# Altium footprint library temperature_logger_lib.PcbLib: 10 footprints
Each footprint in its own frame and in the unit in brackets; x right, y up, seen from the top. Pads: shape width x height; smd on the part's side, far side on the other; paste and mask are expansions set on the pad; w line width, h text height; cw(c..) or ccw(c..) is an arc to the next point about the centre after c.
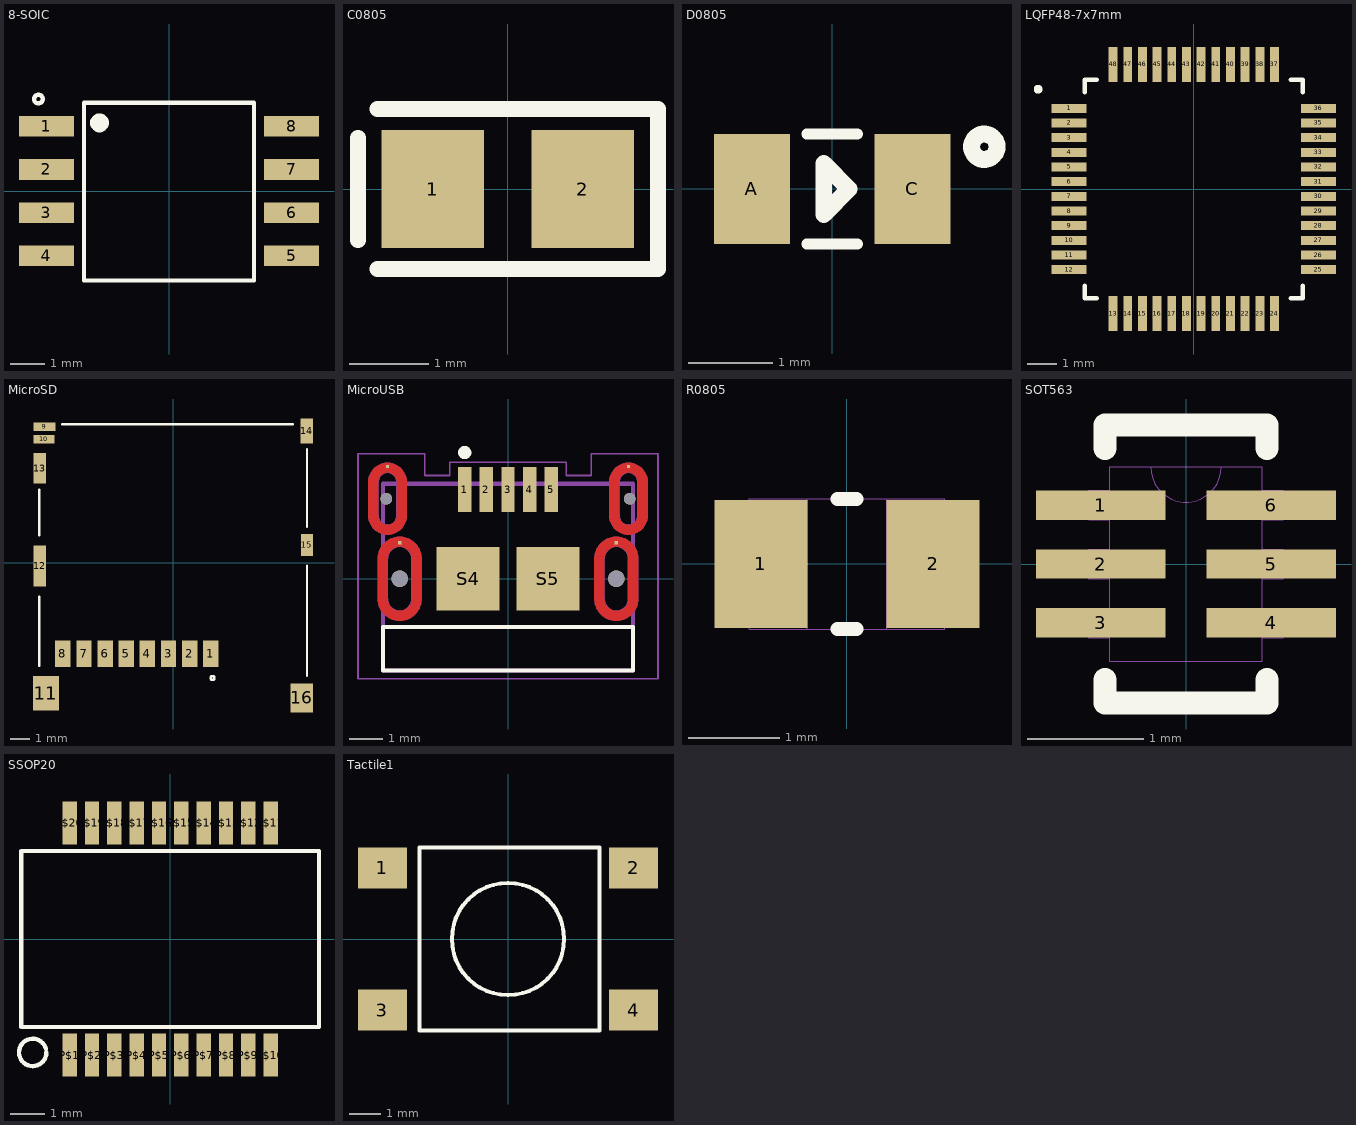
[diagram p0: the footprints below, top view; thin cyan lines are the x and y axes]

## 8-SOIC [mm]
pads (8):
  rect 1.61x0.61 smd: 1(-3.605,1.905) 2(-3.605,0.635) 3(-3.605,-0.635) 4(-3.605,-1.905) 5(3.605,-1.905) 6(3.605,-0.635) 7(3.605,0.635) 8(3.605,1.905)
Top Overlay:
  circle w0.127: c-3.84,2.705 r0.127
  circle w0.3: c-2.043,2.005 r0.127
  lines w0.127: -2.5,-2.63 2.5,-2.63 2.5,2.6 -2.5,2.6 -2.5,-2.63

## C0805 [mm] "Chip Capacitor; Body 2.0 x 1.2 mm (LxW typ)"
height 1.4
pads (2):
  rect 1.3x1.5 smd: 1(-0.95,0) 2(0.95,0)
Top Overlay:
  lines w0.2: -1.9,-0.65 -1.9,0.65 ; -1.651,-1.016 1.905,-1.016 1.905,1.016 -1.651,1.016

## D0805 [mm]
pads (2):
  rect 0.9x1.3 smd: A(-0.95,0) C(0.95,0)
Top Overlay:
  circle w0.2: c1.8,0.5 r0.15
  lines w0.127: -0.3,-0.65 0.3,-0.65 ; -0.3,0.65 0.3,0.65
  lines w0.2: -0.1,-0.3 0.2,0 -0.1,0.3 -0.1,-0.3

## LQFP48-7x7mm [mm]
pads (48):
  rect 1.194x0.305 smd: 1(-4.25,2.75) 2(-4.25,2.25) 3(-4.25,1.75) 4(-4.25,1.25) 5(-4.25,0.75) 6(-4.25,0.25) 7(-4.25,-0.25) 8(-4.25,-0.75) 9(-4.25,-1.25) 10(-4.25,-1.75) 11(-4.25,-2.25) 12(-4.25,-2.75) 25(4.25,-2.75) 26(4.25,-2.25) 27(4.25,-1.75) 28(4.25,-1.25) 29(4.25,-0.75) 30(4.25,-0.25) 31(4.25,0.25) 32(4.25,0.75) 33(4.25,1.25) 34(4.25,1.75) 35(4.25,2.25) 36(4.25,2.75)
  rect 0.305x1.194 smd: 13(-2.75,-4.25) 14(-2.25,-4.25) 15(-1.75,-4.25) 16(-1.25,-4.25) 17(-0.75,-4.25) 18(-0.25,-4.25) 19(0.25,-4.25) 20(0.75,-4.25) 21(1.25,-4.25) 22(1.75,-4.25) 23(2.25,-4.25) 24(2.75,-4.25) 37(2.75,4.25) 38(2.25,4.25) 39(1.75,4.25) 40(1.25,4.25) 41(0.75,4.25) 42(0.25,4.25) 43(-0.25,4.25) 44(-0.75,4.25) 45(-1.25,4.25) 46(-1.75,4.25) 47(-2.25,4.25) 48(-2.75,4.25)
Top Overlay:
  circle w0.152: c-5.3,3.4 r0.076
  lines w0.152: -3.721,-3.3 -3.721,-3.721 -3.3,-3.721 ; -3.721,3.3 -3.721,3.721 -3.3,3.721 ; 3.3,-3.721 3.721,-3.721 3.721,-3.3 ; 3.3,3.721 3.721,3.721 3.721,3.3

## MicroSD [mm]
pads (16):
  rect 0.8x1.4 smd: 1(1.965,-4.75) 2(0.865,-4.75) 3(-0.235,-4.75) 4(-1.335,-4.75) 5(-2.435,-4.75) 6(-3.535,-4.75) 7(-4.635,-4.75) 8(-5.735,-4.75)
  rect 1.15x0.45 smd: 9(-6.7,7.075)
  rect 1.1x0.45 smd: 10(-6.725,6.415)
  rect 1.35x1.8 smd: 11(-6.625,-6.8)
  rect 0.65x2.14 smd: 12(-6.95,-0.17)
  rect 0.65x1.6 smd: 13(-6.95,4.91)
  rect 0.65x1.3 smd: 14(6.95,6.85)
  rect 0.6x1.15 smd: 15(6.975,0.925)
  rect 1.16x1.5 smd: 16(6.695,-7.05)
Top Overlay:
  circle w0.127: c2.06,-6.01 r0.1
  lines w0.127: -6.975,-5.38 -6.975,-1.77 ; -6.975,1.41 -6.975,3.8 ; -5.77,7.2 6.24,7.2 ; 6.975,-5.9 6.975,-0.17 ; 6.975,1.85 6.975,5.91

## MicroUSB [mm]
pads (15):
  rect 0.4x1.35 smd: 1(-1.3,2.675) 2(-0.65,2.675) 3(0,2.675) 4(0.65,2.675) 5(1.3,2.675)
  round 0.35 hole 0.35 unplated: None(-3.65,2.4) None(3.65,2.4)
  round 0.5 hole 0.5 unplated: None(-3.25,0) None(3.25,0)
  rect 0.1x0.1 smd: S1(-3.25,1.08) S2(3.25,1.08) S3(-3.615,3.369) S6(3.615,3.369)
  rect 1.9x1.9 smd: S4(-1.2,0) S5(1.2,0)
Top Layer:
  region: 257 vertices and 0 holes, not listed, extent -3.91,-1.26 -2.59,1.26
  region: 257 vertices and 0 holes, not listed, extent 2.59,-1.26 3.91,1.26
  region: 257 vertices and 0 holes, not listed, extent -4.195,1.32 -3.035,3.48
  region: 257 vertices and 0 holes, not listed, extent 3.035,1.32 4.195,3.48
Bottom Layer:
  region: 257 vertices and 0 holes, not listed, extent -3.91,-1.26 -2.59,1.26
  region: 257 vertices and 0 holes, not listed, extent 2.59,-1.26 3.91,1.26
  region: 257 vertices and 0 holes, not listed, extent -4.195,1.32 -3.035,3.48
  region: 257 vertices and 0 holes, not listed, extent 3.035,1.32 4.195,3.48
Top Overlay:
  circle w0.2: c-1.3,3.787 r0.1
  lines w0.127: -3.75,-2.75 -3.75,-1.45 3.75,-1.45 3.75,-2.75 -3.75,-2.75
Top Paste:
  drawing of 4 lines, arcs and shapes, not listed
Bottom Paste:
  drawing of 4 lines, arcs and shapes, not listed
Top Solder:
  region: -4.164,1.44 -2.35,1.44 -2.35,-1.445 -4.164,-1.445
  region: 2.356,1.44 4.15,1.44 4.15,-1.443 2.356,-1.443
  region: -4.368,3.65 -2.865,3.65 -2.865,1.151 -4.368,1.151
  region: 2.871,3.65 4.365,3.65 4.365,1.152 2.871,1.152
Bottom Solder:
  region: -4.164,1.44 -2.35,1.44 -2.35,-1.445 -4.164,-1.445
  region: 2.352,1.44 4.15,1.44 4.15,-1.441 2.352,-1.441
  region: -4.371,3.65 -2.865,3.65 -2.865,1.152 -4.371,1.152
  region: 2.872,3.65 4.365,3.65 4.365,1.153 2.872,1.153
Mechanical 1:
  lines w0.127: -3.75,-1.45 -3.75,2.85 3.75,2.85 3.75,-1.45 ; -3.75,-1.45 -3.75,-2.75 3.75,-2.75 3.75,-1.45 ; -3.75,-1.45 3.75,-1.45
Mechanical 4:
  lines w0.01: -3.895,1.9 ccw(c-3.615,1.9) -3.615,1.62 ccw(c-3.615,1.9) -3.335,1.9 -3.335,2.9 ccw(c-3.615,2.9) -3.615,3.18 ccw(c-3.615,2.9) -3.895,2.9 -3.895,1.9 ; -3.61,-0.6 ccw(c-3.25,-0.6) -3.25,-0.96 ccw(c-3.25,-0.6) -2.89,-0.6 -2.89,0.6 ccw(c-3.25,0.6) -3.25,0.96 ccw(c-3.25,0.6) -3.61,0.6 -3.61,-0.6 ; 2.89,-0.6 ccw(c3.25,-0.6) 3.25,-0.96 ccw(c3.25,-0.6) 3.61,-0.6 3.61,0.6 ccw(c3.25,0.6) 3.25,0.96 ccw(c3.25,0.6) 2.89,0.6 2.89,-0.6 ; 3.335,1.9 ccw(c3.615,1.9) 3.615,1.62 ccw(c3.615,1.9) 3.895,1.9 3.895,2.9 ccw(c3.615,2.9) 3.615,3.18 ccw(c3.615,2.9) 3.335,2.9 3.335,1.9
  lines w0.05: -4.5,3.75 -2.5,3.75 -2.5,3.1 -1.75,3.1 -1.75,3.5 1.75,3.5 1.75,3.1 2.5,3.1 2.5,3.75 4.5,3.75 ; -4.475,3.75 ccw(c-4.475,3.725) -4.5,3.725 -4.5,-3 4.5,-3 4.5,3.725

## R0805 [mil]
pads (2):
  rect 40x55 smd: 1(-37,0) 2(37,0)
Top Overlay:
  lines w6: -4,-28 4,-28 ; -4,28 4,28
Mechanical 1:
  lines w0: -17,-28 17,-28 ; -17,-28 -42,-28 -42,28 -17,28 ; -17,-28 -17,28 ; -17,28 17,28 ; 17,-28 42,-28 42,28 17,28 ; 17,-28 17,28

## SOT563 [mil]
pads (6):
  rect 44x10 smd: 1(-29,20) 2(-29,0) 3(-29,-20) 4(29,-20) 5(29,0) 6(29,20)
Top Overlay:
  lines w7.87: -27.56,-39.37 -27.56,-47.24 27.56,-47.24 27.56,-39.37 ; -27.56,39.37 -27.56,47.24 27.56,47.24 27.56,39.37
Mechanical 1:
  lines w0: -26,-25 -33,-25 -33,-15 -26,-15 ; -26,-25 -26,-15 ; -26,-25 -26,-33 26,-33 26,-25 ; -26,-15 -26,-5 ; -26,-5 -33,-5 -33,5 -26,5 ; -26,-5 -26,5 ; -26,5 -26,15 ; -26,15 -33,15 -33,25 -26,25 ; -26,15 -26,25 ; -26,25 -26,33 -12,33 ; -12,33 ccw(c0,33) 12,33 ; -12,33 12,33 ; 12,33 26,33 26,25 ; 26,-25 33,-25 33,-15 26,-15 ; 26,-25 26,-15 ; 26,-15 26,-5 ; 26,-5 33,-5 33,5 26,5 ; 26,-5 26,5 ; 26,5 26,15 ; 26,15 33,15 33,25 26,25 ; 26,15 26,25

## SSOP20 [mm]
pads (20):
  rect 0.42x1.25 smd: P$1(-2.925,-3.375) P$2(-2.275,-3.375) P$3(-1.625,-3.375) P$4(-0.975,-3.375) P$5(-0.325,-3.375) P$6(0.325,-3.375) P$7(0.975,-3.375) P$8(1.625,-3.375) P$9(2.275,-3.375) P$10(2.925,-3.375) P$11(2.925,3.375) P$12(2.275,3.375) P$13(1.625,3.375) P$14(0.975,3.375) P$15(0.325,3.375) P$16(-0.325,3.375) P$17(-0.975,3.375) P$18(-1.625,3.375) P$19(-2.275,3.375) P$20(-2.925,3.375)
Top Overlay:
  lines w0.127: -3.612,-3.21 ccw(c-4,-3.3) -3.602,-3.3 ; -4.33,-2.56 -4.33,2.56 4.33,2.56 4.33,-2.56 -4.33,-2.56

## Tactile1 [mm] "6 mm x 6 mm"
pads (4):
  rect 1.55x1.3 smd: 1(-3.975,2.25) 2(3.975,2.25) 3(-3.975,-2.25) 4(3.975,-2.25)
Top Overlay:
  circle w0.127: c0,0 r1.778
  lines w0.127: -2.8,-2.9 -2.8,2.9 2.9,2.9 2.9,-2.9 -2.8,-2.9